# Altium footprint library 未分类器件.PcbLib: 59 footprints (part 1 of 4)
Each footprint in its own frame and in the unit in brackets; x right, y up, seen from the top. Pads: shape width x height; smd on the part's side, far side on the other; paste and mask are expansions set on the pad; w line width, h text height; cw(c..) or ccw(c..) is an arc to the next point about the centre after c.
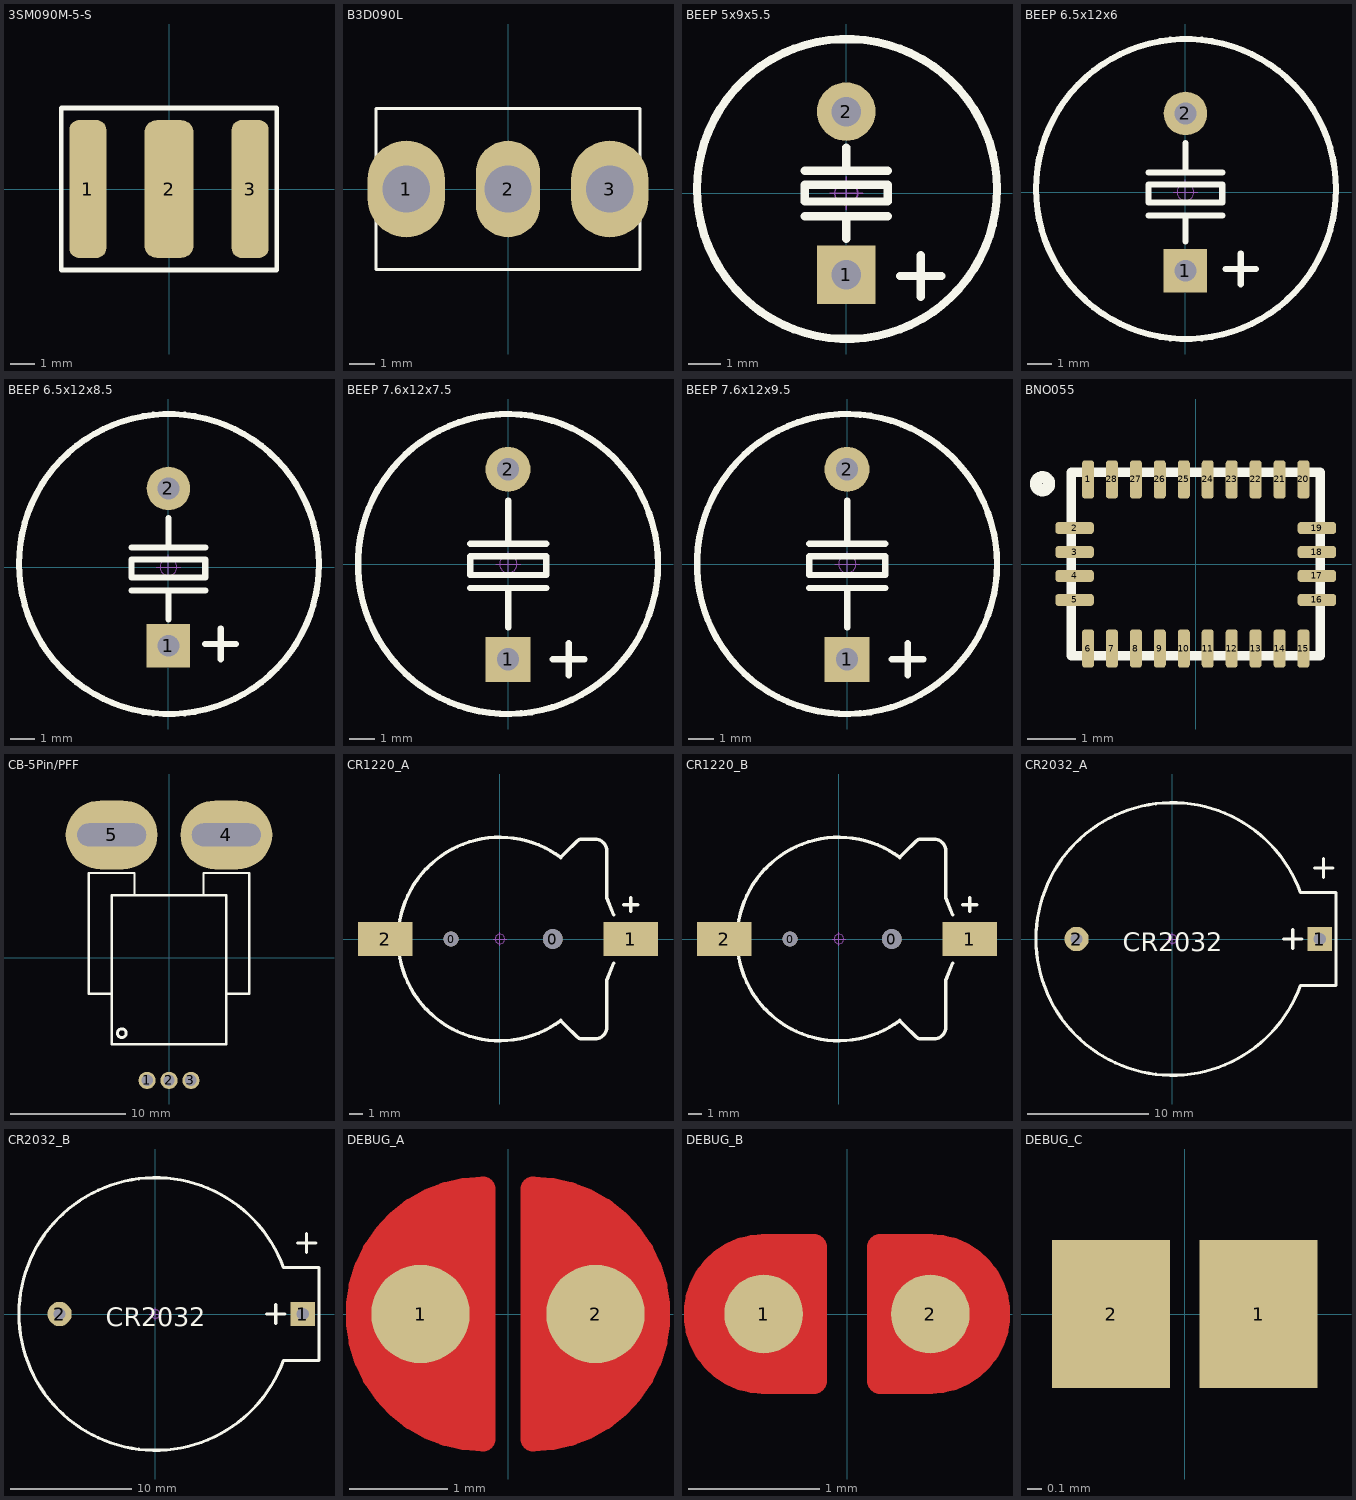
[diagram p0: the footprints below, top view; thin cyan lines are the x and y axes]

## 3SM090M-5-S [mm]
pads (3):
  rrect50% 1.5x5.6 smd: 1(-3.3,0) 3(3.3,0)
  rrect50% 2x5.6 smd: 2(0,0)
Top Overlay:
  lines w0.2: -4.381,-3.289 -4.381,3.289 4.381,3.289 4.381,-3.289 -4.381,-3.289

## B3D090L [mil] "陶瓷气体放电管"
height 43.31
pads (3):
  oval 120x150 hole 73.23: 1(-158,0) 3(158,0)
  oval 100x150 hole 73.23: 2(0,0)
Top Overlay:
  lines w5: -205,-125 205,-125 205,125 -205,125 -205,-125
3D body "67268.stp": height 433.07, standoff -165.35, extent -263.74,-157.48 263.74,157.49

## BEEP 5x9x5.5 [mm] "5*9*5.5mm(脚距,直径,高度)"
pads (2):
  rect 1.8x1.8 hole 0.9: 1(0,-2.5)
  round 1.8 hole 0.9: 2(0,2.5)
Top Overlay:
  circle w0.254: c0.023,0.127 r4.6
  lines w0.254: -1.27,-0.709 1.27,-0.709 ; -1.27,0.685 1.27,0.685 ; 0,-1.397 0,-0.709 ; 0,0.812 0,1.397 ; 1.651,-2.54 2.921,-2.54 ; 2.286,-3.175 2.286,-1.905 ; -1.27,-0.254 1.27,-0.254 1.27,0.254 -1.27,0.254 -1.27,-0.254
Mechanical 15:
  circle w0.05: c0,0 r0.35
  lines w0.05: -0.5,0 0.5,0 ; 0,-0.5 0,0.5
3D body "BEEP 5x9x5.5.STEP": height 5.45, standoff -3.55, extent -4.5,-4.5 4.5,4.5

## BEEP 6.5x12x6 [mm] "6.5*12*6mm(脚距,直径,高度)"
pads (2):
  rect 1.8x1.8 hole 0.9: 1(0,-3.25)
  round 1.8 hole 0.9: 2(0,3.25)
Top Overlay:
  circle w0.254: c0.023,0.127 r6.2
  lines w0.254: -1.524,-0.963 1.524,-0.963 ; -1.524,0.812 1.524,0.812 ; 0,-2.032 0,-0.963 ; 0,0.812 0,2.032 ; 1.651,-3.175 2.921,-3.175 ; 2.286,-3.81 2.286,-2.54 ; -1.524,-0.438 -1.524,0.312 1.524,0.312 1.524,-0.438 -1.524,-0.438
Mechanical 15:
  circle w0.05: c0,0 r0.35
  lines w0.05: -0.5,0 0.5,0 ; 0,-0.5 0,0.5
3D body "BEEP 6.5x12x6.STEP": height 6.05, standoff -3.25, extent -6,-6 6,6

## BEEP 6.5x12x8.5 [mm] "6.5*12*8.5mm(脚距,直径,高度)"
pads (2):
  rect 1.8x1.8 hole 0.9: 1(0,-3.25)
  round 1.8 hole 0.9: 2(0,3.25)
Top Overlay:
  circle w0.254: c0.023,0.127 r6.2
  lines w0.254: -1.524,-0.963 1.524,-0.963 ; -1.524,0.812 1.524,0.812 ; 0,-2.159 0,-0.963 ; 0,0.812 0,2.032 ; 1.524,-3.175 2.794,-3.175 ; 2.159,-3.81 2.159,-2.54 ; -1.524,-0.438 1.524,-0.438 1.524,0.312 -1.524,0.312 -1.524,-0.438
Mechanical 15:
  circle w0.05: c0,0 r0.35
  lines w0.05: -0.5,0 0.5,0 ; 0,-0.5 0,0.5
3D body "BEEP 6.5x12x8.5.STEP": height 8.55, standoff -3.25, extent -6,-6 6,6

## BEEP 7.6x12x7.5 [mm] "6.5*12*7.5mm(脚距,直径,高度)"
height 9.398
pads (2):
  rect 1.8x1.8 hole 0.9: 1(-0.011,-3.811)
  round 1.8 hole 0.9: 2(-0.011,3.789)
Top Overlay:
  circle w0.254: c-0.011,0 r6.001
  lines w0.254: -1.524,-0.963 1.524,-0.963 ; -1.524,0.812 1.524,0.812 ; 0,-2.54 0,-0.963 ; 0,0.812 0,2.54 ; 1.778,-3.81 3.048,-3.81 ; 2.413,-4.445 2.413,-3.175 ; -1.524,-0.438 1.524,-0.438 1.524,0.312 -1.524,0.312 -1.524,-0.438
Mechanical 15:
  circle w0.05: c0,0 r0.35
  lines w0.05: -0.5,0 0.5,0 ; 0,-0.5 0,0.5
3D body "BEEP 7.6x12x7.5.STEP": height 7.55, standoff -3.25, extent -6.011,-5.928 5.989,6.072

## BEEP 7.6x12x9.5 [mm] "6.5*12*9.5mm(脚距,直径,高度)"
height 9.398
pads (2):
  rect 1.8x1.8 hole 0.9: 1(-0.011,-3.811)
  round 1.8 hole 0.9: 2(-0.011,3.789)
Top Overlay:
  circle w0.254: c-0.011,0 r6.001
  lines w0.254: -1.524,-0.963 1.524,-0.963 ; -1.524,0.812 1.524,0.812 ; 0,-2.54 0,-0.963 ; 0,0.812 0,2.54 ; 1.778,-3.81 3.048,-3.81 ; 2.413,-4.445 2.413,-3.175 ; -1.524,-0.438 1.524,-0.438 1.524,0.312 -1.524,0.312 -1.524,-0.438
Mechanical 15:
  circle w0.05: c0,0 r0.35
  lines w0.05: -0.5,0 0.5,0 ; 0,-0.5 0,0.5
3D body "BEEP 7.6x12x9.5.STEP": height 9.55, standoff -3.25, extent -6.011,-5.928 5.989,6.072

## BNO055 [mm]
pads (28):
  rrect50% 0.25x0.8 smd: 1(-2.25,1.766) 6(-2.25,-1.766) 7(-1.75,-1.766) 8(-1.25,-1.766) 9(-0.75,-1.766) 10(-0.25,-1.766) 11(0.25,-1.766) 12(0.75,-1.766) 13(1.25,-1.766) 14(1.75,-1.766) 15(2.25,-1.766) 20(2.25,1.766) 21(1.75,1.766) 22(1.25,1.766) 23(0.75,1.766) 24(0.25,1.766) 25(-0.25,1.766) 26(-0.75,1.766) 27(-1.25,1.766) 28(-1.75,1.766)
  rrect50% 0.8x0.25 smd: 2(-2.529,0.75) 3(-2.529,0.25) 4(-2.529,-0.25) 5(-2.529,-0.75) 16(2.529,-0.75) 17(2.529,-0.25) 18(2.529,0.25) 19(2.529,0.75)
Top Overlay:
  circle w0.254: c-3.2,1.676 r0.137
  lines w0.2: -2.6,-1.912 -2.6,1.913 2.6,1.913 2.6,-1.912 -2.6,-1.912

## CB-5Pin/PFF [mm]
pads (5):
  round 1.5 hole 1: 1(-1.91,-10.7) 2(0,-10.7) 3(1.91,-10.7)
  oval 8x6 hole 6 slot 2 at 90 deg: 4(5,10.7) 5(-5,10.7)
Top Overlay:
  circle w0.254: c-4.115,-6.585 r0.381
  lines w0.2: -5,-3.15 -7,-3.15 -7,7.385 -3,7.385 -3,5.45 ; 3,5.45 3,7.385 7,7.385 7,-3.15 5,-3.15 ; -5,-7.55 5,-7.55 5,5.45 -5,5.45 -5,-7.55
3D body "ACS770.stp": height 7, standoff -3.5, extent -7,-11.399 7,11.817

## CR1220_A [mm] "纽扣电池座"
pads (4):
  round 1.1 hole 1.1: 0(-3.6,0)
  round 1.45 hole 1.45: 0(3.9,0)
  rect 4x2.5 smd: 1(9.652,0) 2(-8.458,0)
Top Overlay:
  lines w0.254: 4.5,-6 cw(c0,0) 4.5,6 ; 4.572,-6.096 4.826,-6.35 5.662,-7.186 ccw(c6.096,-6.753) 6.096,-7.366 7.007,-7.366 ccw(c7.007,-6.499) 7.874,-6.499 7.874,-3.048 8.382,-1.778 ; 4.572,6.096 4.826,6.35 5.662,7.186 cw(c6.096,6.753) 6.096,7.366 7.007,7.366 cw(c7.007,6.499) 7.874,6.499 7.874,3.048 8.382,1.778 ; 9.144,2.54 10.16,2.54 ; 9.652,2.032 9.652,3.048
Mechanical 15:
  circle w0.05: c0,0 r0.35
  lines w0.05: -0.5,0 0.5,0 ; 0,-0.5 0,0.5
3D body "CR1220_A.STEP": height 4.05, standoff -0.85, extent -9.416,-7.45 10.34,7.45

## CR1220_B [mm] "纽扣电池座"
pads (4):
  round 1.1 hole 1.1: 0(-3.6,0)
  round 1.45 hole 1.45: 0(3.9,0)
  rect 4x2.5 smd: 1(9.652,0) 2(-8.458,0)
Top Overlay:
  lines w0.254: 4.5,-6 cw(c0,0) 4.5,6 ; 4.572,-6.096 4.826,-6.35 5.662,-7.186 ccw(c6.096,-6.753) 6.096,-7.366 7.007,-7.366 ccw(c7.007,-6.499) 7.874,-6.499 7.874,-3.048 8.382,-1.778 ; 4.572,6.096 4.826,6.35 5.662,7.186 cw(c6.096,6.753) 6.096,7.366 7.007,7.366 cw(c7.007,6.499) 7.874,6.499 7.874,3.048 8.382,1.778 ; 9.144,2.54 10.16,2.54 ; 9.652,2.032 9.652,3.048
Mechanical 15:
  circle w0.05: c0,0 r0.35
  lines w0.05: -0.5,0 0.5,0 ; 0,-0.5 0,0.5
3D body "CR1220_B.STEP": height 4.05, standoff -0.85, extent -9.416,-7.45 10.34,7.45

## CR2032_A [mm] "纽扣电池座"
pads (2):
  rect 2x2 hole 1: 1(12.126,0)
  round 2 hole 1: 2(-7.874,0)
Top Overlay:
  lines w0.254: 9.144,0 10.668,0 ; 9.906,-0.762 9.906,0.762 ; 11.684,5.842 13.208,5.842 ; 12.446,5.08 12.446,6.604 ; 10.541,-3.81 cw(c0,0) 10.541,3.81 13.462,3.81 13.462,-3.81 10.541,-3.81
  text "CR2032" at -4.064,-1.016 h1.52
Mechanical 15:
  circle w0.05: c0,0 r0.35
  lines w0.05: -0.5,0 0.5,0 ; 0,-0.5 0,0.5
3D body "CR2032_A.STEP": height 8.75, standoff -3.05, extent -11.1,-11.099 13.3,11.099

## CR2032_B [mm] "纽扣电池座"
pads (2):
  rect 2x2 hole 1: 1(12.126,0)
  round 2 hole 1: 2(-7.874,0)
Top Overlay:
  lines w0.254: 9.144,0 10.668,0 ; 9.906,-0.762 9.906,0.762 ; 11.684,5.842 13.208,5.842 ; 12.446,5.08 12.446,6.604 ; 10.541,-3.81 cw(c0,0) 10.541,3.81 13.462,3.81 13.462,-3.81 10.541,-3.81
  text "CR2032" at -4.064,-1.016 h1.52
Mechanical 15:
  circle w0.05: c0,0 r0.35
  lines w0.05: -0.5,0 0.5,0 ; 0,-0.5 0,0.5
3D body "CR2032_B.STEP": height 8.75, standoff -3.05, extent -11.1,-11.099 13.3,11.099

## DEBUG_A [mm] "调试断点焊盘"
pads (2):
  round 1 smd paste-1: 1(-0.889,0) 2(0.889,0)
Top Layer:
  region: -0.254,1.27 -0.254,-1.27 -0.762,-1.143 -1.397,-0.508 -1.524,0.254 -1.27,0.762 -1.016,1.016 -0.508,1.27
  region: 0.254,1.27 0.254,-1.27 0.762,-1.143 1.397,-0.508 1.524,0.254 1.27,0.762 1.016,1.016 0.508,1.27
  lines w0.254: -0.254,-1.27 cw(c-0.254,0) -0.254,1.27 -0.254,-1.27 ; 0.254,-1.27 ccw(c0.254,0) 0.254,1.27 0.254,-1.27
Top Solder:
  region: 0.254,1.27 0.254,-1.27 0.762,-1.143 1.397,-0.508 1.524,0.254 1.27,0.762 1.016,1.016 0.508,1.27
  region: -0.254,1.27 -0.254,-1.27 -0.762,-1.143 -1.397,-0.508 -1.524,0.254 -1.27,0.762 -1.016,1.016 -0.508,1.27
  lines w0.254: -0.254,-1.27 cw(c-0.254,0) -0.254,1.27 -0.254,-1.27 ; 0.254,-1.27 ccw(c0.254,0) 0.254,1.27 0.254,-1.27

## DEBUG_B [mm] "调试断点焊盘"
pads (2):
  round 0.6 smd paste-0.6: 1(-0.635,0) 2(0.635,0)
Top Layer:
  region: -0.254,0.508 -0.762,0.508 -0.838,0.508 -0.978,0.45 -1.085,0.343 -1.143,0.203 -1.143,0.127 -1.143,0 -1.143,-0.101 -1.066,-0.288 -0.923,-0.431 -0.736,-0.508 -0.635,-0.508 -0.254,-0.508
  region: 0.254,-0.508 0.762,-0.508 0.838,-0.508 0.978,-0.45 1.085,-0.343 1.143,-0.203 1.143,-0.127 1.143,0 1.143,0.101 1.066,0.288 0.923,0.431 0.736,0.508 0.635,0.508 0.254,0.508
  lines w0.203: -0.635,-0.508 cw(c-0.635,0) -0.635,0.508 -0.254,0.508 -0.254,-0.508 -0.635,-0.508 ; 0.254,-0.508 0.635,-0.508 ccw(c0.635,0) 0.635,0.508 0.254,0.508 0.254,-0.508
Top Solder:
  region: -0.254,0.508 -0.635,0.508 -0.736,0.508 -0.923,0.431 -1.066,0.288 -1.143,0.101 -1.143,0 -1.143,-0.101 -1.066,-0.288 -0.923,-0.431 -0.736,-0.508 -0.635,-0.508 -0.254,-0.508
  region: 0.254,-0.508 0.635,-0.508 0.736,-0.508 0.923,-0.431 1.066,-0.288 1.143,-0.101 1.143,0 1.143,0.101 1.066,0.288 0.923,0.431 0.736,0.508 0.635,0.508 0.254,0.508
  lines w0.203: -0.635,-0.508 cw(c-0.635,0) -0.635,0.508 -0.254,0.508 -0.254,-0.508 -0.635,-0.508 ; 0.254,-0.508 0.254,0.508 0.635,0.508 cw(c0.635,0) 0.635,-0.508 0.254,-0.508

## DEBUG_C [mm]
pads (2):
  rect 0.8x1 smd: 1(0.5,0) 2(-0.5,0)
Top Solder:
  region: -1.008,0.61 -1.008,-0.61 1.024,-0.61 1.024,0.61